# Altium footprint library resistors.PcbLib: 3 footprints
Each footprint in its own frame and in the unit in brackets; x right, y up, seen from the top. Pads: shape width x height; smd on the part's side, far side on the other; paste and mask are expansions set on the pad; w line width, h text height; cw(c..) or ccw(c..) is an arc to the next point about the centre after c.
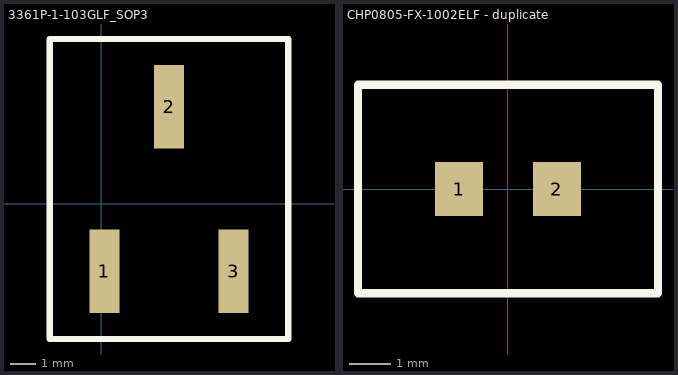
[diagram p0: the footprints below, top view; thin cyan lines are the x and y axes]

## 3361P-1-103GLF_SOP3 [mm]
pads (3):
  rect 1.19x3.3 smd: 1(0.127,-2.667) 2(2.667,3.81) 3(5.207,-2.667)
Top Overlay:
  lines w0.254: -2.032,-5.334 -2.032,6.477 1.905,6.477 7.366,6.477 7.366,-5.334 -2.032,-5.334

## CHP0805-FX-1002ELF - duplicate [mm]
pads (2):
  rect 1.15x1.3 smd: 1(-1.175,0) 2(1.175,0)
Top Overlay:
  lines w0.2: -3.6,-2.5 3.6,-2.5 3.6,2.5 -3.6,2.5 -3.6,0 -3.6,-2.5

## PCBComponent_1 [mm]